# Altium schematic symbol library LED.SchLib: 6 symbols
Pins are listed as number, name and electrical type; pins without a type are passive.

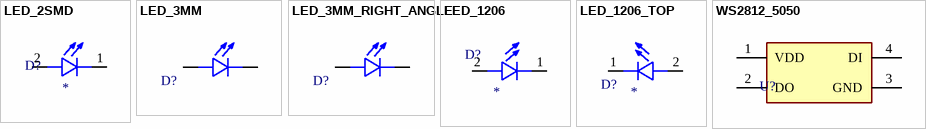
[diagram p0: symbols LED_2SMD to WS2812_5050]

## LED_2SMD
designator D?
LED RED CLEAR 1204 SMD R/A; ERP: *; Suuplier Part Number 1: *; Supplier 1: *; Package: *; Manufacturer Part Number 1: *; Manufacturer 1: *; Value: *
footprint LED_2SMD
pins: 1, 2

## LED_3MM
designator D?  (value not drawn)
LED_3MM
footprint LED_3MM
pins: 1, 2

## LED_3MM_RIGHT_ANGLE
designator D?  (value not drawn)
LED_3MM
footprint LED_3MM_GREEN_RIGHT_ANGLE
footprint LED_3MM_RED_RIGHT_ANGLE
footprint LED_3MM_YELLOW_RIGHT_ANGLE
pins: 1, 2

## LED_1206
designator D?
LED CLEAR 1206 SMD; Manufacturer Part Number 1: *; Manufacturer 1: *; Value: *
footprint LED_1206
pins: 1, 2

## LED_1206_TOP
designator D?
LED CLEAR 1206 SMD; Manufacturer Part Number 1: *; Manufacturer 1: *; Value: *
footprint LED_1206_TOP (LED CLEAR 1206 SMD)
pins: 1, 2

## WS2812_5050
designator U?
-20℃~+85℃ 0.3mA 1.6mm 120° 2000V 3.5V~5.5V 465nm~475nm 4kHz 5mm 5mm 800Kbit/s G:1300mcd~1800mcd Top-mount Water Clear SMD5050-4P RGB LEDs(Built-in IC) ROHS; Manufacturer 1: *; Manufacturer Part Number 1: *; Package: *; Supplier 1: *; Supplier Part Number 1: *
footprint WS2812_5050
pins: 1 VDD, 2 DO, 3 GND, 4 DI